# Altium schematic symbol library NCS1P5-232&plus_.SchLib: 2 symbols
Pins are listed as number, name and electrical type; pins without a type are passive.

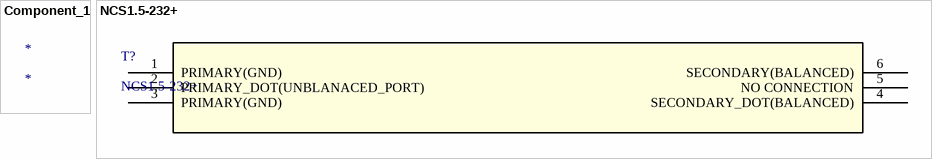
[diagram p0: symbols Component_1 to NCS1.5-232+]

## Component_1
designator *

## NCS1.5-232+
designator T?
No Description Available; Mfr_Name: Mini Circuits; Type: DEV; Copyright: Copyright (C) 2023 Ultra Librarian. All rights reserved.; Manufacturer_Part_Number: NCS1.5-232+; RefDes: RefDes
footprint GE0805C-9_MNC
pins: 1 PRIMARY(GND), 2 PRIMARY_DOT(UNBLANACED_PORT), 3 PRIMARY(GND), 4 SECONDARY_DOT(BALANCED), 5 NO CONNECTION, 6 SECONDARY(BALANCED)